# Altium footprint library SignalCommunications.PCBLIB: 466 footprints (part 21 of 30)
Each footprint in its own frame and in the unit in brackets; x right, y up, seen from the top. Pads: shape width x height; smd on the part's side, far side on the other; paste and mask are expansions set on the pad; w line width, h text height; cw(c..) or ccw(c..) is an arc to the next point about the centre after c.
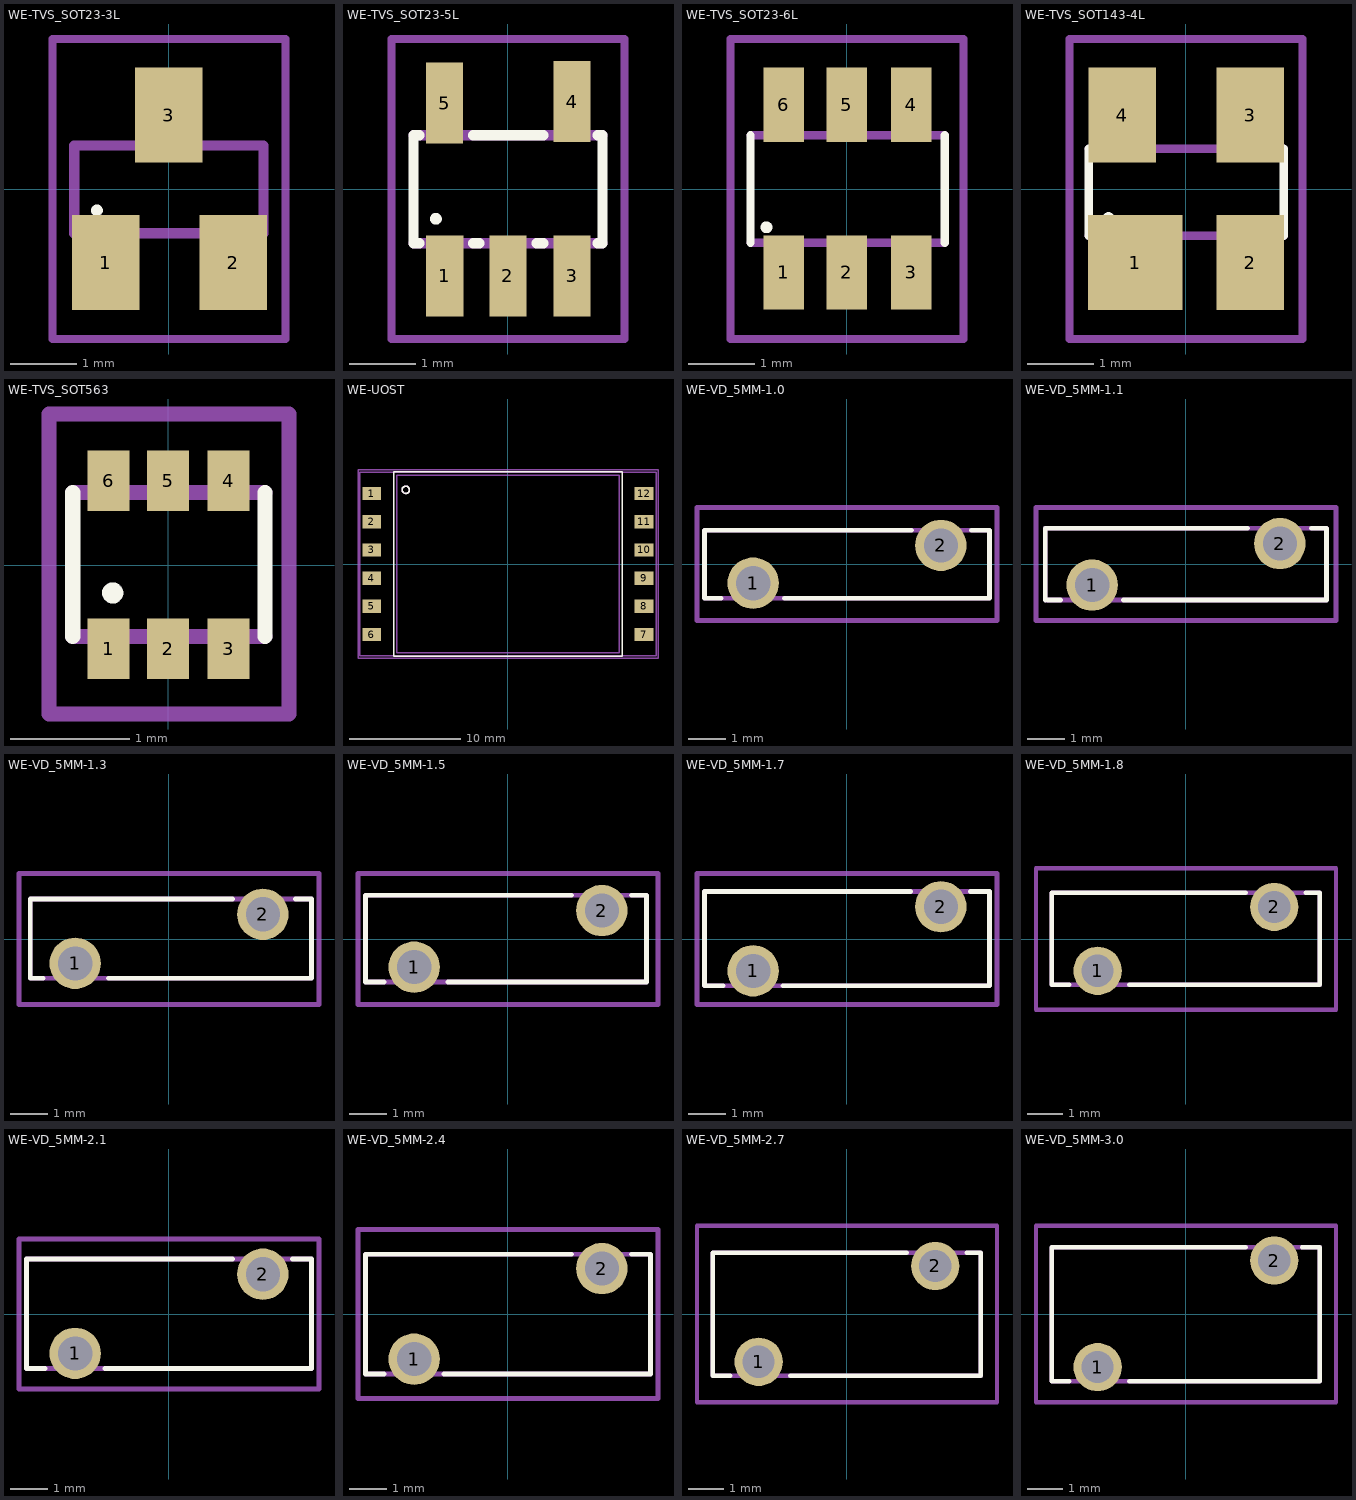
[diagram p20: the footprints below, top view; thin cyan lines are the x and y axes]

## WE-TVS_SOT23-3L [mil]
pads (3):
  rect 40x56 smd: 1(-37.4,-43.31) 2(38,-43.31) 3(0,44)
Top Overlay:
  circle w5: c-42.64,-12.44 r1
Mechanical 16:
  rectangle: -9,28 9,51
  rectangle: 28,-51 46,-28
  rectangle: -46,-51 -28,-28
  lines w6: -56,-26 56,-26 56,26 -56,26 -56,-26
Mechanical 27:
  lines w5: -68.9,-88.58 69,-88.58 69,89 -68.9,89 -68.9,-88.58

## WE-TVS_SOT23-5L [mil]
pads (5):
  rect 22x48 smd: 1(-37.4,-51.18) 2(0,-51.18) 3(38,-51.18) 4(38,52) 5(-37.5,51)
Top Overlay:
  circle w5: c-42.64,-17.44 r1
  lines w6: -52.28,-31.89 -55.98,-31.89 -55.98,32 -52.28,32 ; -20.55,-31.89 -16.85,-31.89 ; -20.55,32 21,32 ; 17,-31.89 21,-31.89 ; 53,-31.89 56,-31.89 56,32 53,32
Mechanical 16:
  rectangle: -47.24,-59.06 -27.56,-33.46
  rectangle: -9.84,-59.06 10,-33.46
  rectangle: 28,-59.06 48,-33.46
  rectangle: 28,34 48,60
  rectangle: -47.24,34 -27.56,60
  lines w6: -55.98,-31.89 56,-31.89 ; -55.98,32 56,32
Mechanical 27:
  lines w5: -68.9,-88.58 69,-88.58 69,89 -68.9,89 -68.9,-88.58

## WE-TVS_SOT23-6L [mil]
pads (6):
  rect 24x44 smd: 1(-37.4,-49.21) 2(0,-49.21) 3(38,-49.21) 4(38,50) 5(0,50) 6(-37.4,50)
Top Overlay:
  circle w5: c-47.64,-22.44 r1
  lines w5: -57.09,-31.5 -57.09,32 ; 58,-31.5 58,32
Mechanical 16:
  rectangle: -47.24,34 -27.56,60
  rectangle: 28,34 48,60
  rectangle: -10.24,33 10,59
  rectangle: -9.74,-58.54 10,-32.94
  rectangle: 28,-58.04 48,-32.44
  rectangle: -47.24,-58.54 -27.56,-32.94
  rectangle: 28,-58.54 48,-32.94
  lines w5: -57.09,-31.5 58,-31.5 ; -57.09,32 58,32
Mechanical 27:
  lines w5: -68.9,-88.58 69,-88.58 69,89 -68.9,89 -68.9,-88.58

## WE-TVS_SOT143-4L [mil]
pads (4):
  rect 56x56 smd: 1(-29.92,-43.31)
  rect 40x56 smd: 2(38,-43.31) 3(38,44) 4(-37.8,44)
Top Overlay:
  circle w5: c-45.87,-17.05 r1
  lines w5: -57.48,-27.56 -57.48,24 ; 58,-27.56 58,24
Mechanical 16:
  rectangle: -46.46,24 -29.13,46
  rectangle: 30,24 47,46
  rectangle: 30,-49.21 47,-27.56
  rectangle: -46.46,-49.21 -14.17,-27.56
  lines w5: -57.48,-27.56 58,-27.56 ; -57.48,24 58,24
Mechanical 27:
  lines w5: -68.9,-88.58 69,-88.58 69,89 -68.9,89 -68.9,-88.58

## WE-TVS_SOT563 [mil]
pads (6):
  rect 14x20 smd: 1(-19.68,-27.56) 2(0,-27.56) 3(20,-27.56) 4(20,28) 5(0,28) 6(-19.68,28)
Top Overlay:
  circle w5: c-18.31,-9.17 r1
  lines w5: -31.5,-23.62 -31.5,24 ; 32,-23.62 32,24
Mechanical 16:
  lines w5: -31.5,-23.62 32,-23.62 ; -31.5,24 32,24
Mechanical 27:
  lines w5: -39.37,-49.21 40,-49.21 40,50 -39.37,50 -39.37,-49.21

## WE-UOST [mil]
pads (12):
  rect 67x47 smd: 1(-482.87,250) 2(-482.87,150) 3(-482.87,50) 4(-482.87,-50) 5(-482.87,-150) 6(-482.87,-250) 7(483,-250) 8(483,-150) 9(483,-50) 10(483,50) 11(483,150) 12(483,250)
Top Overlay:
  circle w5: c-362.5,263 r13
  lines w5: -405.51,-326.77 406,-326.77 406,327 -405.51,327 -405.51,-326.77
Mechanical 10:
  lines w5: -393.7,-314.96 394,-314.96 394,315 -393.7,315 -393.7,-314.96
Mechanical 16:
  circle w5: c-362.5,263 r13
  lines w5: -525,-325 525,-325 525,325 -525,325 -525,-325
Mechanical 27:
  lines w5: -531.5,-334.65 532,-334.65 532,335 -531.5,335 -531.5,-334.65

## WE-VD_5MM-1.0 [mil]
pads (2):
  round 54 hole 36: 1(-98.43,-19.68) 2(99,20)
Top Overlay:
  lines w5: -131.89,-35.43 -149.61,-35.43 -149.61,36 68,36 ; -65.75,-35.43 150,-35.43 150,36 131,36
Mechanical 16:
  lines w5: -149.61,-35.43 150,-35.43 150,36 -149.61,36 -149.61,-35.43
Mechanical 27:
  lines w5: -157.48,-59.06 158,-59.06 158,60 -157.48,60 -157.48,-59.06

## WE-VD_5MM-1.1 [mil]
pads (2):
  round 54 hole 36: 1(-98.43,-21.65) 2(99,22)
Top Overlay:
  lines w5: -147.64,-37.4 -147.64,-11.81 ; -147.64,-10.24 -147.64,38 65,38 ; -145.67,-37.4 -131.5,-37.4 ; -65.35,-37.4 148,-37.4 148,38 132,38
Mechanical 16:
  lines w5: -147.64,-37.4 -147.64,38 148,38 148,-37.4 -147.64,-37.4
Mechanical 27:
  lines w5: -157.48,-59.06 158,-59.06 158,60 -157.48,60 -157.48,-59.06

## WE-VD_5MM-1.3 [mil]
pads (2):
  round 54 hole 36: 1(-98.43,-25.59) 2(99,26)
Top Overlay:
  lines w5: -131.89,-41.34 -145.67,-41.34 -145.67,42 67,42 ; -63.39,-41.34 149,-41.34 ; 133,42 150,42 150,-40.94
Mechanical 16:
  lines w5: 149,-41.34 -145.67,-41.34 -145.67,42 150,42 150,-41.34
Mechanical 27:
  lines w5: -157.48,-68.9 158,-68.9 158,69 -157.48,69 -157.48,-68.9

## WE-VD_5MM-1.5 [mil]
pads (2):
  round 54 hole 36: 1(-98.43,-29.53) 2(99,30)
Top Overlay:
  lines w5: -129.92,-45.28 -149.61,-45.28 -149.61,46 67,46 ; -62.99,-45.28 146,-45.28 146,46 130,46
Mechanical 16:
  lines w5: -149.61,46 -149.61,-45.28 146,-45.28 146,46 -147.64,46
Mechanical 27:
  lines w5: -157.48,-68.9 158,-68.9 158,69 -157.48,69 -157.48,-68.9

## WE-VD_5MM-1.7 [mil]
pads (2):
  round 54 hole 36: 1(-98.43,-33.46) 2(99,34)
Top Overlay:
  lines w5: -129.92,-49.21 -149.61,-49.21 -149.61,50 67,50 ; -66.93,-49.21 150,-49.21 150,50 130,50
Mechanical 16:
  lines w5: -149.61,-49.21 -149.61,50 150,50 150,-49.21 -149.61,-49.21
Mechanical 27:
  lines w5: -157.48,-68.9 158,-68.9 158,69 -157.48,69 -157.48,-68.9

## WE-VD_5MM-1.8 [mil]
pads (2):
  round 54 hole 36: 1(-98.43,-35.43) 2(99,36)
Top Overlay:
  lines w5: -129.92,-51.18 -149.61,-51.18 -149.61,52 67,52 ; -62.99,-51.18 150,-51.18 150,52 134,52
Mechanical 16:
  lines w5: -149.61,-51.18 -149.61,52 150,52 150,-51.18 -149.61,-51.18
Mechanical 27:
  lines w5: -167.32,-78.74 168,-78.74 168,79 -167.32,79 -167.32,-78.74

## WE-VD_5MM-2.1 [mil]
pads (2):
  round 54 hole 36: 1(-98.43,-41.34) 2(99,42)
Top Overlay:
  lines w5: -129.92,-57.09 -149.61,-57.09 -149.61,58 67,58 ; -66.93,-57.09 150,-57.09 150,58 130,58
Mechanical 16:
  lines w5: -149.61,-57.09 150,-57.09 150,58 -149.61,58 -149.61,-57.09
Mechanical 27:
  lines w5: -157.48,-78.74 158,-78.74 158,79 -157.48,79 -157.48,-78.74

## WE-VD_5MM-2.4 [mil]
pads (2):
  round 54 hole 36: 1(-98.43,-47.24) 2(99,48)
Top Overlay:
  lines w5: -129.92,-62.99 -149.61,-62.99 -149.61,63 67,63 ; -66.93,-62.99 150,-62.99 150,63 130,63
Mechanical 16:
  lines w5: -149.61,-62.99 -149.61,63 150,63 150,-62.99 -149.61,-62.99
Mechanical 27:
  lines w5: -157.48,-88.58 158,-88.58 158,89 -157.48,89 -157.48,-88.58

## WE-VD_5MM-2.7 [mil]
pads (2):
  round 54 hole 36: 1(-98.43,-53.15) 2(99,54)
Top Overlay:
  lines w5: -129.92,-68.9 -149.61,-68.9 -149.61,69 67,69 ; -62.99,-68.9 150,-68.9 150,69 134,69
Mechanical 16:
  lines w5: -149.61,-68.9 150,-68.9 150,69 -149.61,69 -149.61,-68.9
Mechanical 27:
  lines w5: -167.32,-98.43 168,-98.43 168,99 -167.32,99 -167.32,-98.43

## WE-VD_5MM-3.0 [mil]
pads (2):
  round 54 hole 36: 1(-98.43,-59.06) 2(99,60)
Top Overlay:
  lines w5: -129.92,-74.8 -149.61,-74.8 -149.61,75 67,75 ; -62.99,-74.8 150,-74.8 150,75 130,75
Mechanical 16:
  lines w5: -149.61,-74.8 150,-74.8 150,75 -149.61,75 -149.61,-74.8
Mechanical 27:
  lines w5: -167.32,-98.43 168,-98.43 168,99 -167.32,99 -167.32,-98.43